# Altium footprint library Shunt.PcbLib: 3 footprints
Each footprint in its own frame and in the unit in brackets; x right, y up, seen from the top. Pads: shape width x height; smd on the part's side, far side on the other; paste and mask are expansions set on the pad; w line width, h text height; cw(c..) or ccw(c..) is an arc to the next point about the centre after c.
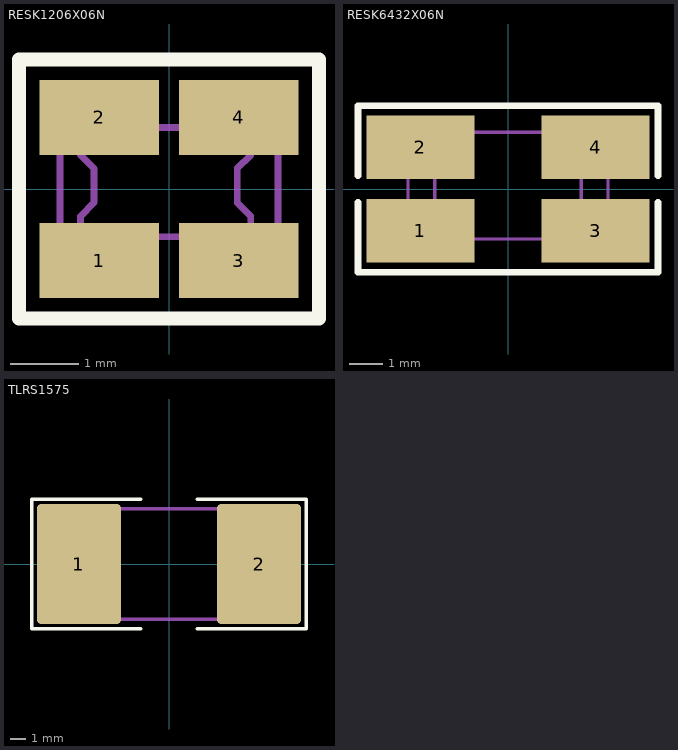
[diagram p0: the footprints below, top view; thin cyan lines are the x and y axes]

## RESK1206X06N [mm] "chip 4 Terminal High Precision Current Sense"
height 0.65
pads (4):
  rect 1.75x1.1 smd: 1(-1.025,-1.05) 2(-1.025,1.05) 3(1.025,-1.05) 4(1.025,1.05)
Top Overlay:
  lines w0.2: -2.2,-1.9 2.2,-1.9 2.2,-0.4 2.2,1.9 -2.2,1.9 -2.2,-0.4 -2.2,-1.9
Mechanical 7:
  lines w0.1: -1.3,-0.7 -1.3,-0.4 -1.1,-0.2 -1.1,0.3 -1.3,0.5 -1.3,0.9 ; 1.2,-0.7 1.2,-0.4 1,-0.2 1,0.3 1.2,0.5 1.2,0.9 ; -1.6,-0.7 -1.6,0.9 1.6,0.9 1.6,-0.7 -1.6,-0.7
  text ".Designator" at -1.6,-0.1 h1.2
3D body "User Library-LVK12.STEP": height 0.61, standoff -0.01, extent -1.6,-0.7 1.6,0.9

## RESK6432X06N [mm] "chip 4 Terminal High Precision Current Sense"
height 0.65
pads (4):
  rect 3.25x1.9 smd: 1(-2.625,-1.25) 2(-2.625,1.25) 3(2.625,-1.25) 4(2.625,1.25)
Top Overlay:
  lines w0.2: -4.5,-0.4 -4.5,-2.5 4.5,-2.5 4.5,-0.4 ; -4.5,0.4 -4.5,2.5 4.5,2.5 4.5,0.4
Mechanical 7:
  lines w0.1: -3.2,-1.5 3.2,-1.5 3.2,-0.7 3,-0.5 3,0.7 3.2,0.9 3.2,1.7 0,1.7 -3.2,1.7 -3.2,0.9 -3,0.7 -3,-0.5 -3.2,-0.7 -3.2,-1.5 ; -2.2,-1.5 2.2,-1.5 2.2,1.7 -2.2,1.7 -2.2,-1.5
  text ".Designator" at -2.6,-0.2 h1.2
3D body "User Library-Ohmite_LVK25R003FER.step": height 0.6, standoff 0, extent -3.2,-1.5 3.2,1.7

## TLRS1575 [mm] "TLRS Series"
height 1
pads (2):
  rrect10% 5.6x8 smd: 1(-6,0) 2(6,0)
Top Overlay:
  lines w0.254: -1.905,-4.318 -9.144,-4.318 -9.144,4.318 -1.905,4.318 ; 1.905,-4.318 9.144,-4.318 9.144,4.318 1.905,4.318
Mechanical 13:
  lines w0.254: -7.747,-3.683 -7.747,3.683 7.747,3.683 7.747,-3.683 -7.747,-3.683
3D body: height 1, standoff 0.5, extent -7.746,-3.682 7.746,3.682